# EAGLE library part IC-STM8T141AM61T (library Namenlos)
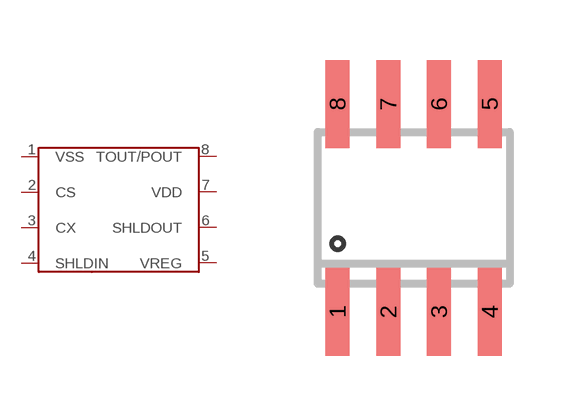
[diagram p1: symbol with the pads of SO8; footprint SO8]

Designator prefix -

## IC-STM8T141AM61T  [SO8]
1  VSS
2  CS
3  CX
4  SHLDIN
5  VREG
6  SHLDOUT
7  VDD
8  TOUT/POUT

## Footprint SO8 (pad centres in mm)
smd 0.6 x 2.2: 1 -1.905,-2.6; 2 -0.635,-2.6; 3 0.635,-2.6; 4 1.905,-2.6; 5 1.905,2.6; 6 0.635,2.6; 7 -0.635,2.6; 8 -1.905,2.6